# Altium schematic symbol library LR1121EVM.SCHLIB: 30 symbols
Pins are listed as number, name and electrical type; pins without a type are passive.

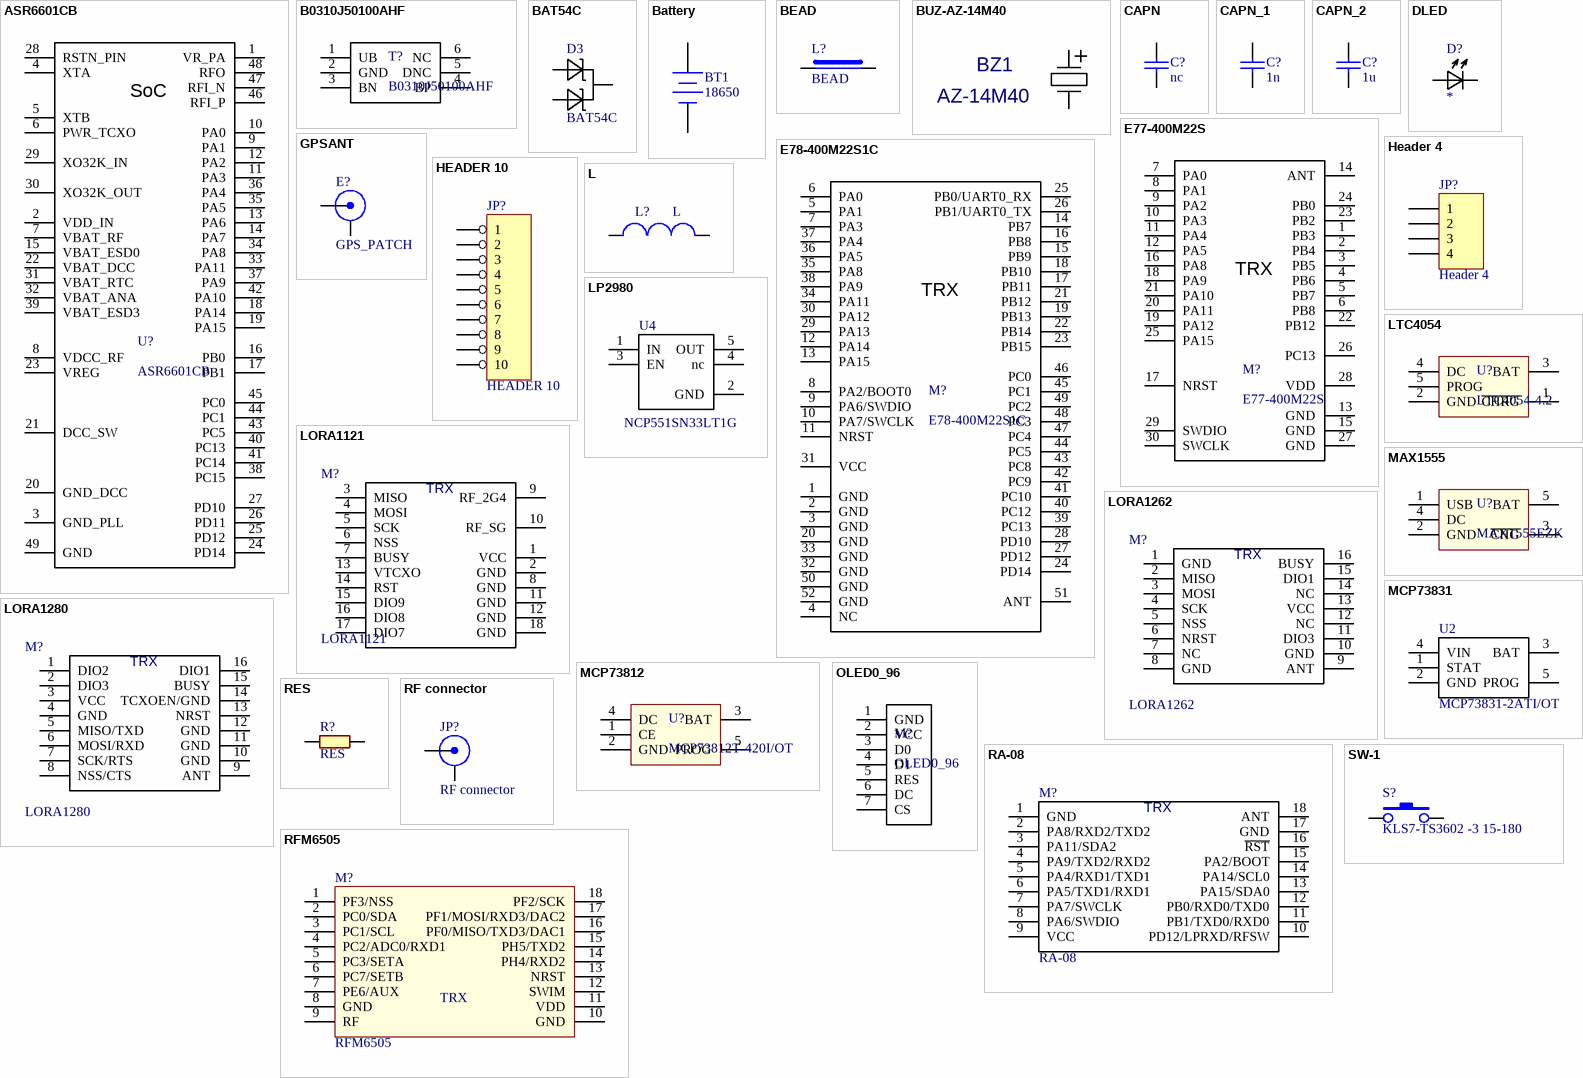
[diagram p0: symbols ASR6601CB to SW-1]

## ASR6601CB
designator U?
pins: 1 VR_PA, 2 VDD_IN, 3 GND_PLL, 4 XTA, 5 XTB, 6 PWR_TCXO, 7 VBAT_RF, 8 VDCC_RF, 9 PA1, 10 PA0, 11 PA3, 12 PA2, 13 PA6, 14 PA7, 15 VBAT_ESD0, 16 PB0, 17 PB1, 18 PA14, 19 PA15, 20 GND_DCC, 21 DCC_SW, 22 VBAT_DCC, 23 VREG, 24 PD14, 25 PD12, 26 PD11, 27 PD10, 28 RSTN_PIN, 29 XO32K_IN, 30 XO32K_OUT, 31 VBAT_RTC, 32 VBAT_ANA, 33 PA11, 34 PA8, 35 PA5, 36 PA4, 37 PA9, 38 PC15, 39 VBAT_ESD3, 40 PC13, 41 PC14, 42 PA10, 43 PC5, 44 PC1, 45 PC0, 46 RFI_P, 47 RFI_N, 48 RFO, 49 GND
text: SoC

## B0310J50100AHF
designator T?
footprint BAL_TTM
pins: 1 UB, 2 GND, 3 BN, 4 BP, 5 DNC, 6 NC

## BAT54C
designator D3
Вид: Діод
footprint SOT-23
pins: 1 A1, 2 A2, 3 C1C2

## Battery
designator BT1, comment 18650
Multicell Battery; Published: 24-Mar-1999; LatestRevisionDate: 17-Jul-2002; LatestRevisionNote: Re-released for DXP Platform.; PackageReference: BAT-2; Publisher: Altium Limited; PackageDescription: Battery; 2 Leads; Value: 18650
footprint BAT-2 (Battery; 2 Leads)
footprint 3AAAHOLDER
footprint 18650
pins: 1 +, 2 -

## BEAD
designator L?
Вид: Ferrite bead
footprint L-1210
footprint L-0603 (Chip Inductor, 2-Leads, Body 1,60x0,80mm, IPC Medium Density)
footprint L-0402
pins: 1, 2

## BUZ-AZ-14M40
designator BZ1, comment AZ-14M40
Value: {Value}; Mounting  Method: THT
footprint AZ-14M40 (Footprint not found)
pins: 1, 2

## CAPN
designator C?, comment nc
Voltage: 50V; Точність/група: NP0; Вид: Конденсатор
footprint C-0603
footprint C-0805
footprint C-1206
footprint C-0402 (Chip Capacitor, 2-Leads, Body 1,00x0,50mm, IPC Medium Density)
footprint C-1210 (Chip Capacitor, 2-Leads, Body 3,20x2,50mm, IPC Medium Density)
footprint C-1812 (Chip Capacitor, 2-Leads, Body 4,50x3,20mm, IPC Medium Density)
pins: 1, 2

## CAPN_1
designator C?, comment 1n
Voltage: 50V; Точність/група: NP0; Вид: Конденсатор
footprint C-0603
footprint C-0805
footprint C-1206
footprint C-0402 (Chip Capacitor, 2-Leads, Body 1,00x0,50mm, IPC Medium Density)
footprint C-1210 (Chip Capacitor, 2-Leads, Body 3,20x2,50mm, IPC Medium Density)
footprint C-1812 (Chip Capacitor, 2-Leads, Body 4,50x3,20mm, IPC Medium Density)
pins: 1, 2

## CAPN_2
designator C?, comment 1u
Voltage: 50V; Точність/група: NP0; Вид: Конденсатор
footprint C-0603
footprint C-0805
footprint C-1206
footprint C-0402 (Chip Capacitor, 2-Leads, Body 1,00x0,50mm, IPC Medium Density)
footprint C-1210 (Chip Capacitor, 2-Leads, Body 3,20x2,50mm, IPC Medium Density)
footprint C-1812 (Chip Capacitor, 2-Leads, Body 4,50x3,20mm, IPC Medium Density)
pins: 1, 2

## DLED
designator D?
Вид: Світлодіод
pins: 1, 2

## E77-400M22S
designator M?
footprint E77XX-M22
pins: 1 PB3, 2 PB4, 3 PB5, 4 PB6, 5 PB7, 6 PB8, 7 PA0, 8 PA1, 9 PA2, 10 PA3, 11 PA4, 12 PA5, 13 GND, 14 ANT, 15 GND, 16 PA8, 17 NRST, 18 PA9, 19 PA12, 20 PA11, 21 PA10, 22 PB12, 23 PB2, 24 PB0, 25 PA15, 26 PC13, 27 GND, 28 VDD, 29 SWDIO, 30 SWCLK
text: TRX

## E78-400M22S1C
designator M?
footprint E78_400_M22S1C
pins: 1 GND, 2 GND, 3 GND, 4 NC, 5 PA1, 6 PA0, 7 PA3, 8 PA2/BOOT0, 9 PA6/SWDIO, 10 PA7/SWCLK, 11 NRST, 12 PA14, 13 PA15, 14 PB7, 15 PB9, 16 PB8, 17 PB11, 18 PB10, 19 PB13, 20 GND, 21 PB12, 22 PB14, 23 PB15, 24 PD14, 25 PB0/UART0_RX, 26 PB1/UART0_TX, 27 PD12, 28 PD10, 29 PA13, 30 PA12, 31 VCC, 32 GND, 33 GND, 34 PA11, 35 PA8, 36 PA5, 37 PA4, 38 PA9, 39 PC13, 40 PC12, 41 PC10, 42 PC9, 43 PC8, 44 PC5, 45 PC1, 46 PC0, 47 PC4, 48 PC3, 49 PC2, 50 GND, 51 ANT, 52 GND
text: TRX

## GPSANT
designator E?, comment GPS_PATCH
Вид: Роз'єм; *: *
footprint AMPHENOL_132357-11 (SMA End Launch Jack for 1.58mm PCB, 50 Ohm, Flat Tab Contact)
pins: 1 X, 2 Y

## Header 4
designator JP?
Header, 4-Pin; LatestRevisionDate: 17-Jul-2002; LatestRevisionNote: Re-released for DXP Platform.; Publisher: Altium Limited
footprint HDR1X4 (Connector; Header; 4 Position)
signal-integrity model Connector
footprint PLS1-4 (Header, Vertical, 2.54 mm pitch; 0.70 mm lead width, 4 pins, 1 row, 4 pins per row, 8.89 mm L X 2.54 mm W X 7.54 mm H body)
pins: 1, 2, 3, 4

## HEADER 10
designator JP?
Вид: Роз'єм; *: *
footprint PLS1-10 (Header, Vertical, 2.54 mm pitch; 0.70 mm lead width, 10 pins, 1 row, 10 pins per row, 24.13 mm L X 2.54 mm W X 7.54 mm H body)
pins: 1, 2, 3, 4, 5, 6, 7, 8, 9, 10

## L
designator L?
Вид: Індуктивність
footprint L-0402
footprint L-0603 (Chip Inductor, 2-Leads, Body 1,60x0,80mm, IPC Medium Density)
footprint L-1210 (Chip Inductor, 2-Leads, Body 3,20x2,50mm, IPC Medium Density)
pins: 1, 2

## LORA1121
designator M?
footprint LGA16_LORA1280
pins: 1 VCC, 2 GND, 3 MISO, 4 MOSI, 5 SCK, 6 NSS, 7 BUSY, 8 GND, 9 RF_2G4, 10 RF_SG, 11 GND, 12 GND, 13 VTCXO, 14 RST, 15 DIO9, 16 DIO8, 17 DIO7, 18 GND
text: TRX

## LORA1262
designator M?
footprint LGA16_LORA1280
pins: 1 GND, 2 MISO, 3 MOSI, 4 SCK, 5 NSS, 6 NRST, 7 NC, 8 GND, 9 ANT, 10 GND, 11 DIO3, 12 NC, 13 VCC, 14 NC, 15 DIO1, 16 BUSY
text: TRX

## LORA1280
designator M?
footprint LGA16_LORA1280
pins: 1 DIO2, 2 DIO3, 3 VCC, 4 GND, 5 MISO/TXD, 6 MOSI/RXD, 7 SCK/RTS, 8 NSS/CTS, 9 ANT, 10 GND, 11 GND, 12 GND, 13 NRST, 14 TCXOEN/GND, 15 BUSY, 16 DIO1
text: TRX

## LP2980
designator U4, comment NCP551SN33LT1G
50mA Low-Dropout Regulator; Вид: Мікросхема
footprint SOT-23-5
pins: 1 IN, 2 GND, 3 EN, 4 nc, 5 OUT

## LTC4054
designator U?, comment LTC4054-4.2
footprint SOT-23-5 (SOT23, 5-Leads, Body 2,90x2,45mm, Pitch 0,95mm, IPC Medium Density)
pins: 1 ~{CHRG}, 2 GND, 3 BAT, 4 DC, 5 PROG

## MAX1555
designator U?, comment MAX1555EZK
footprint SOT-23-5 (SOT23, 5-Leads, Body 2,90x2,45mm, Pitch 0,95mm, IPC Medium Density)
pins: 1 USB, 2 GND, 3 ~{CHG}, 4 DC, 5 BAT

## MCP73812
designator U?, comment MCP73812T-420I/OT
footprint SOT-23-5 (SOT23, 5-Leads, Body 2,90x2,45mm, Pitch 0,95mm, IPC Medium Density)
pins: 1 CE, 2 GND, 3 BAT, 4 DC, 5 PROG

## MCP73831
designator U2, comment MCP73831-2ATI/OT
footprint SOT-23-5 (SOT23, 5-Leads, Body 2,90x2,45mm, Pitch 0,95mm, IPC Medium Density)
pins: 1 STAT, 2 GND, 3 BAT, 4 VIN, 5 PROG

## OLED0_96
designator M?
footprint OLED096 (Header, Vertical, 2.54 mm pitch; 0.70 mm lead width, 7 pins, 1 row, 7 pins per row, 16.51 mm L X 2.54 mm W X 7.54 mm H body)
pins: 1 GND, 2 VCC, 3 D0, 4 D1, 5 RES, 6 DC, 7 CS

## RA-08
designator M?
footprint LGA18_RA08
pins: 1 GND, 2 PA8/RXD2/TXD2, 3 PA11/SDA2, 4 PA9/TXD2/RXD2, 5 PA4/RXD1/TXD1, 6 PA5/TXD1/RXD1, 7 PA7/SWCLK, 8 PA6/SWDIO, 9 VCC, 10 PD12/LPRXD/RFSW, 11 PB1/TXD0/RXD0, 12 PB0/RXD0/TXD0, 13 PA15/SDA0, 14 PA14/SCL0, 15 PA2/BOOT, 16 ~{RST}, 17 GND, 18 ANT
text: TRX

## RES
designator R?
Точність/група: 5%; Вид: Резистор
footprint R-0603
footprint R-0805
footprint R-1206
footprint R-0402 (Chip Resistor, 2-Leads, Body 1,05x0,54mm, IPC Medium Density)
footprint R-1210 (Chip Resistor, 2-Leads, Body 3,20x2,49mm, IPC Medium Density)
footprint R-0603 (Chip Resistor, 2-Leads, Body 1,60x0,82mm, IPC Medium Density)
pins: 1, 2

## RF connector
designator JP?
Вид: Роз'єм; *: *
footprint AMPHENOL_132357-11 (SMA End Launch Jack for 1.58mm PCB, 50 Ohm, Flat Tab Contact)
pins: 1 X, 2 Y

## RFM6505
designator M?
footprint RFM6505
pins: 1 PF3/NSS, 2 PC0/SDA, 3 PC1/SCL, 4 PC2/ADC0/RXD1, 5 PC3/SETA, 6 PC7/SETB, 7 PE6/AUX, 8 GND, 9 RF, 10 GND, 11 VDD, 12 SWIM, 13 NRST, 14 PH4/RXD2, 15 PH5/TXD2, 16 PF0/MISO/TXD3/DAC1, 17 PF1/MOSI/RXD3/DAC2, 18 PF2/SCK
text: TRX

## SW-1
designator S?, comment KLS7-TS3602 -3 15-180
Вид: Кнопка; Робоча напруга: *
footprint KLS7-TS3602 (miniature switch)
pins: 1, 2